# EAGLE library part 62002011121 (library Wurth_Elektronik_Electromechanic_Board_to_Board_Connectors_rev16a)
WR-PHD 2.00mm Pin Header, 20 Pins=>Code : Con_BTB_PHD_2.00_1_THT_62002011121 <http://katalog.we-online.de/media/images/eican/Con_BTB_PHD_2.00_1_THT_6200xx11121_pf2.jpg> Details see: http://katalog.we-online.de/en/em/620_0xx_111_21 Created 2014-06-03, Karrer Zheng 2014 (C) Würth Elektronik
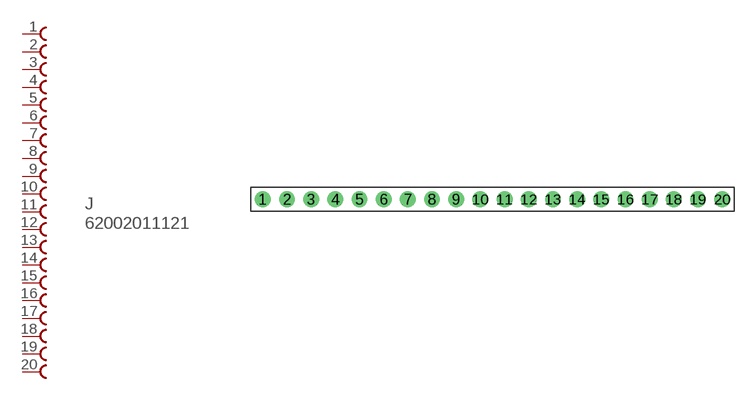
[diagram p231: symbol with the pads of 62002011121; footprint 62002011121]

Designator prefix J

## 62002011121  [62002011121]
1  1  pas
2  2  pas
3  3  pas
4  4  pas
5  5  pas
6  6  pas
7  7  pas
8  8  pas
9  9  pas
10  10  pas
11  11  pas
12  12  pas
13  13  pas
14  14  pas
15  15  pas
16  16  pas
17  17  pas
18  18  pas
19  19  pas
20  20  pas

## Footprint 62002011121 (pad centres in mm)
WR-PHD 2.00mm Pin Header, 20 Pins
drill 0.8: 1 -18,0; 2 -16,0; 3 -14,0; 4 -12,0; 5 -10,0; 6 -8,0; 7 -6,0; 8 -4,0; 9 -2,0; 10 0,0; 11 2,0; 12 4,0; 13 6,0; 14 8,0; 15 10,0; 16 12,0; 17 14,0; 18 16,0; 19 18,0; 20 20,0